# Altium schematic symbol library CANBus.SchLib: 11 symbols
Pins are listed as number, name and electrical type; pins without a type are passive.

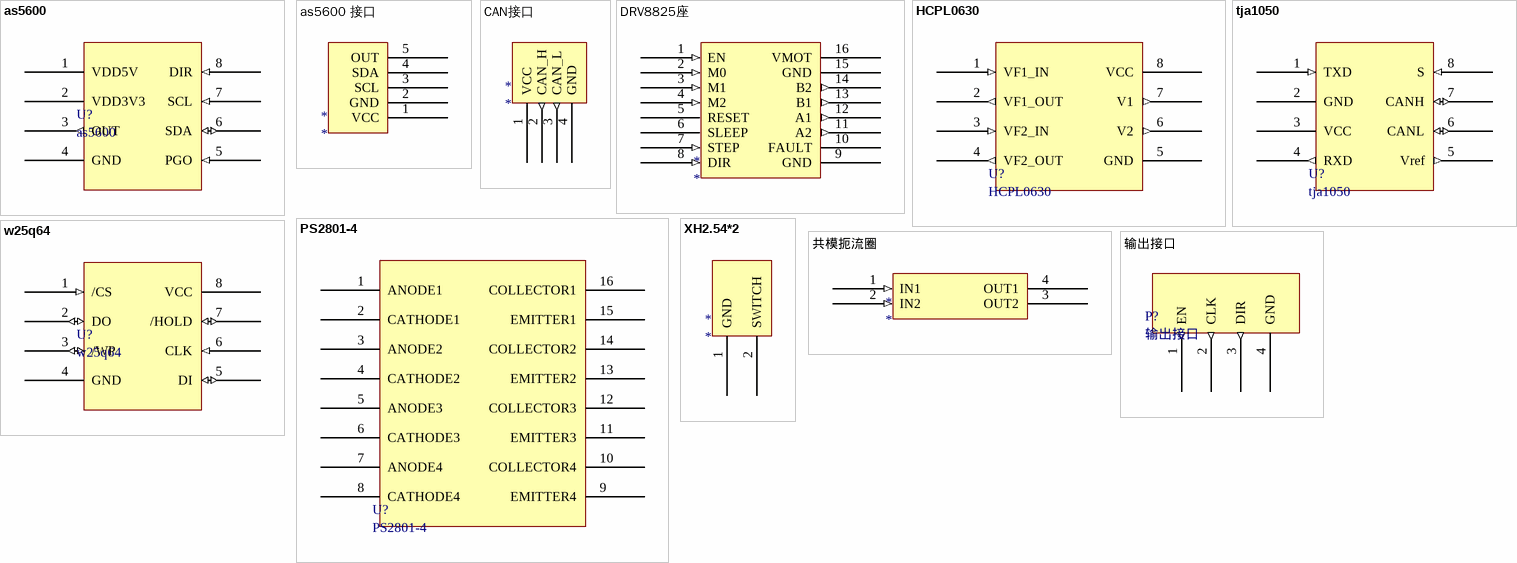
[diagram p0: symbols as5600 to 输出接口]

## as5600
designator U?
footprint as5600 (SOIC, 8-Leads, Body 4.90x3.90mm, Pitch 1.27mm, IPC Medium Density)
pins: 1 VDD5V (power), 2 VDD3V3 (power), 3 OUT (out), 4 GND (power), 5 PGO (in), 6 SDA (io), 7 SCL (in), 8 DIR (in)

## as5600 接口
designator *
footprint XH2.54*5
pins: 1 VCC, 2 GND, 3 SCL, 4 SDA, 5 OUT

## CAN接口
designator *
footprint USB贴片
pins: 1 VCC (power), 2 CAN_H (out), 3 CAN_L (out), 4 GND

## DRV8825座
designator *
footprint DIP16
pins: 1 EN (in), 2 M0 (in), 3 M1 (in), 4 M2 (in), 5 RESET, 6 SLEEP, 7 STEP (in), 8 DIR (in), 9 GND, 10 FAULT, 11 A2 (out), 12 A1 (out), 13 B1 (out), 14 B2 (out), 15 GND, 16 VMOT (power)

## HCPL0630
designator U?
footprint HCPL0630 (SOP, 8-Leads, Body 4.88x3.91mm, Pitch 1.27mm, IPC Medium Density)
pins: 1 VF1_IN (in), 2 VF1_OUT (out), 3 VF2_IN (in), 4 VF2_OUT (out), 5 GND (power), 6 V2 (out), 7 V1 (out), 8 VCC (power)

## PS2801-4
designator U?
footprint PS2801-4 (SOP, 16-Leads, Body 10.30x4.40mm, Pitch 1.27mm, IPC Medium Density)
pins: 1 ANODE1, 2 CATHODE1, 3 ANODE2, 4 CATHODE2, 5 ANODE3, 6 CATHODE3, 7 ANODE4, 8 CATHODE4, 9 EMITTER4, 10 COLLECTOR4, 11 EMITTER3, 12 COLLECTOR3, 13 EMITTER2, 14 COLLECTOR2, 15 EMITTER1, 16 COLLECTOR1

## tja1050
designator U?
footprint tja1050 (SOP, 8-Leads, Body 4.90x3.90mm, Pitch 1.27mm, IPC Medium Density)
pins: 1 TXD (in), 2 GND (power), 3 VCC (power), 4 RXD (out), 5 Vref (out), 6 CANL (io), 7 CANH (io), 8 S (in)

## w25q64
designator U?
footprint w25q64 (SOIC, 8-Leads, Body 5.28x5.28mm, Pitch 1.27mm, IPC Medium Density)
pins: 1 /CS (in), 2 DO (io), 3 /WP (io), 4 GND (power), 5 DI (io), 6 CLK (in), 7 /HOLD (io), 8 VCC (power)

## XH2.54*2
designator *
footprint XH2.54*2
pins: 1 GND, 2 SWITCH

## 共模扼流圈
designator *
footprint 共模扼流圈
pins: 1 IN1 (in), 2 IN2 (in), 3 OUT2, 4 OUT1

## 输出接口
designator P?
footprint XH2.54*4
pins: 1 EN (out), 2 CLK (out), 3 DIR (out), 4 GND